# EAGLE library part OPAMP_DIFF-1 (library CougsInSpace-IC-Amplifiers)
Operational Amplifier - Differential Output - Single
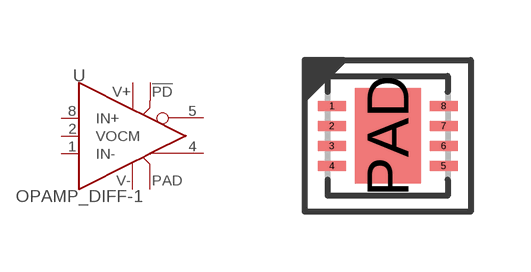
[diagram p0: symbol with the pads of DFN-8-3030; footprint DFN-8-3030]

Designator prefix U

## OPAMP_DIFF-1-AD8137 (SKU: 08-0001; VALUE: AD8137)  [DFN-8-3030]
1  IN-  pas
2  VOCM  pas
3  V+  pwr
4  OUT+  out
5  OUT-  out
6  V-  pwr
7  !PD  in
8  IN+  pas
PAD  PAD  pas

## Footprint DFN-8-3030 (pad centres in mm)
Dual Flat No-Leads (DFN) - 8 Pin - 3.0mm x 3.0mm
smd 0.7 x 0.25: 1 -1.4,0.75; 2 -1.4,0.25; 3 -1.4,-0.25; 4 -1.4,-0.75; 5 1.4,-0.75; 6 1.4,-0.25; 7 1.4,0.25; 8 1.4,0.75
smd 1.65 x 2.38: PAD 0,0